# EAGLE library part MAX3372E (library MyParts)
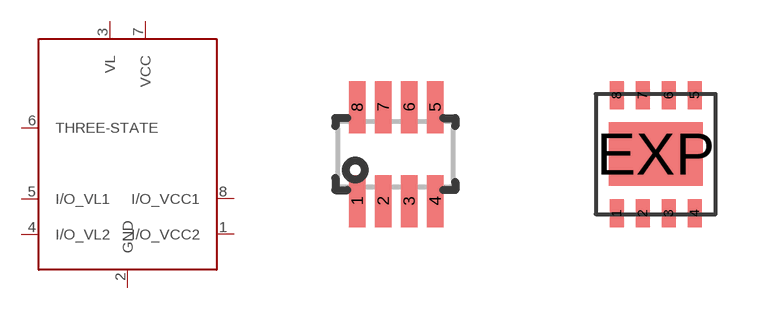
[diagram p12: symbol with the pads of SOT-23-8; footprints SOT-23-8, TDFN8_3X3MM]

Designator prefix -

## MAX3372EEKA+  [SOT-23-8]
1  I/O_VCC2
2  GND
3  VL
4  I/O_VL2
5  I/O_VL1
6  THREE-STATE
7  VCC
8  I/O_VCC1

## MAX3372EETA+T  [TDFN8_3X3MM]
1  I/O_VCC2
2  GND
3  I/O_VCC1
4  VCC
5  THREE-STATE
6  I/O_VL1
7  VL
8  I/O_VL2

## Footprint SOT-23-8 (pad centres in mm)
smd 0.42 x 1.3: 1 -0.95,-1.175; 2 -0.3,-1.175; 3 0.35,-1.175; 4 1,-1.175; 5 1,1.175; 6 0.35,1.175; 7 -0.3,1.175; 8 -0.95,1.175

## Footprint TDFN8_3X3MM (pad centres in mm)
smd 0.35 x 0.7: 1 -0.975,-1.475; 2 -0.325,-1.475; 3 0.325,-1.475; 4 0.975,-1.475; 5 0.975,1.475; 6 0.325,1.475; 7 -0.325,1.475; 8 -0.975,1.475
smd 2.35 x 1.58: EXP 0,0